# Altium footprint library MOLEX KK 0022272021.PCBLIB: 1 footprints
Each footprint in its own frame and in the unit in brackets; x right, y up, seen from the top. Pads: shape width x height; smd on the part's side, far side on the other; paste and mask are expansions set on the pad; w line width, h text height; cw(c..) or ccw(c..) is an arc to the next point about the centre after c.
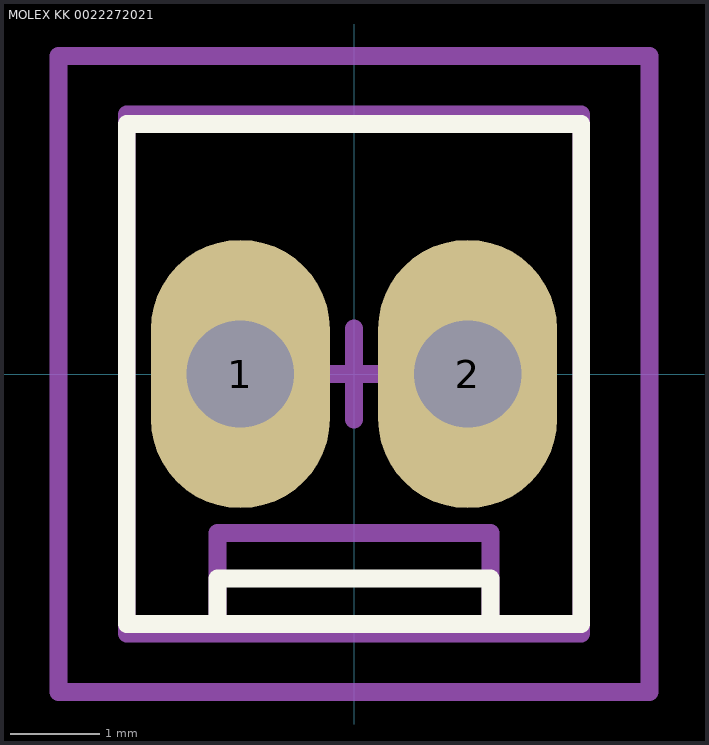
[diagram p0: the footprint, top view; thin cyan lines are the x and y axes]

## MOLEX KK 0022272021 [mm]
height 11.6
pads (2):
  oval 2x3 hole 1.2: 1(-1.27,0) 2(1.27,0)
Top Overlay:
  lines w0.2: -1.524,-2.794 -1.524,-2.286 1.524,-2.286 1.524,-2.794 ; -2.54,-2.794 2.54,-2.794 2.54,2.794 -2.54,2.794 -2.54,-2.794
Mechanical 13:
  lines w0.2: -1.524,-2.9 -1.524,-1.778 1.524,-1.778 1.524,-2.9 ; -2.54,-2.9 2.54,-2.9 2.54,2.9 -2.54,2.9 -2.54,-2.9
Mechanical 15:
  lines w0.2: -0.508,0 0.508,0 ; 0,-0.508 0,0.508 ; -3.302,-3.556 -1.016,-3.556 3.302,-3.556 3.302,-1.016 3.302,3.556 -3.302,3.556 -3.302,-3.556
3D body "MOLEX KK 022272021.STEP": height 11.7, standoff -3.56, extent -2.54,-2.9 2.54,2.9